# Altium footprint library ANT_2450AT18A100E.PcbLib: 1 footprints
Each footprint in its own frame and in the unit in brackets; x right, y up, seen from the top. Pads: shape width x height; smd on the part's side, far side on the other; paste and mask are expansions set on the pad; w line width, h text height; cw(c..) or ccw(c..) is an arc to the next point about the centre after c.
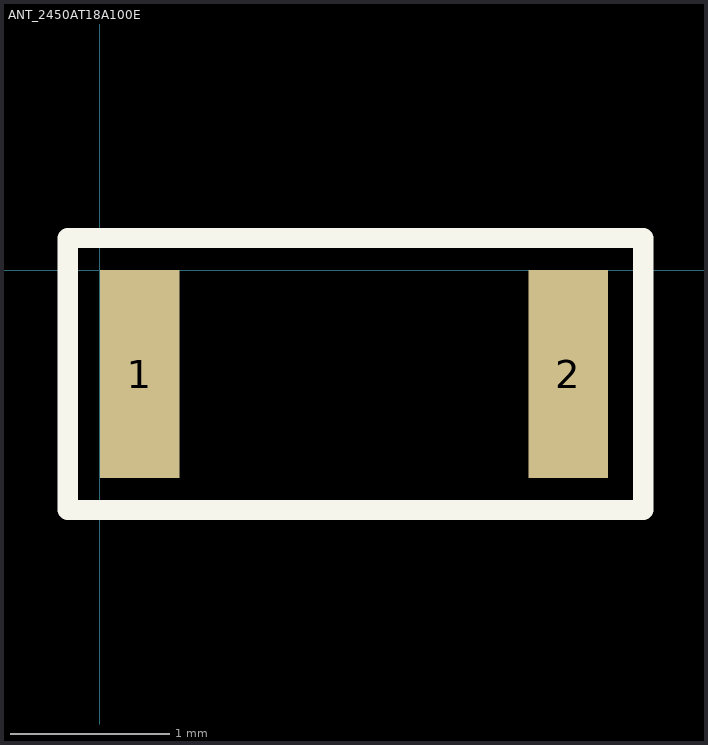
[diagram p0: the footprint, top view; thin cyan lines are the x and y axes]

## ANT_2450AT18A100E [mm] "BLE Antenna"
pads (2):
  rect 0.5x1.3 smd: 1(0.25,-0.65) 2(2.93,-0.65)
Top Overlay:
  lines w0.127: -0.2,-1.5 3.4,-1.5 3.4,0.2 -0.2,0.2 -0.2,-1.5